# Altium footprint library R-Resistor.PCBLIB: 10 footprints
Each footprint in its own frame and in the unit in brackets; x right, y up, seen from the top. Pads: shape width x height; smd on the part's side, far side on the other; paste and mask are expansions set on the pad; w line width, h text height; cw(c..) or ccw(c..) is an arc to the next point about the centre after c.
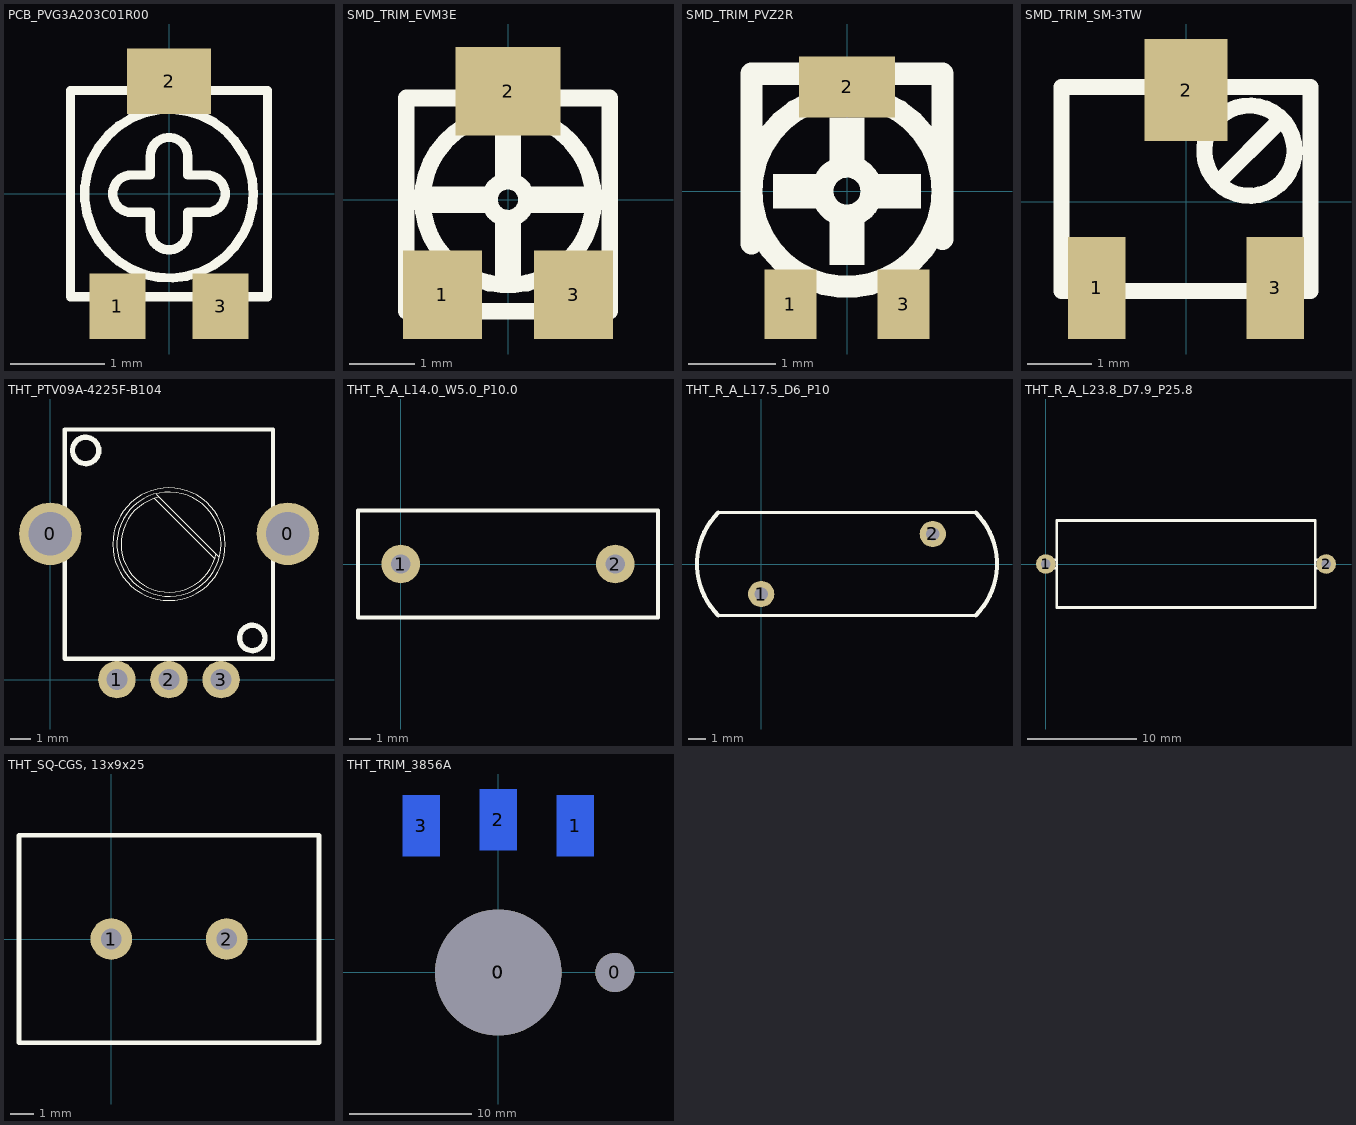
[diagram p0: the footprints below, top view; thin cyan lines are the x and y axes]

## PCB_PVG3A203C01R00 [mm] "PVG3A203C01R00"
height 0.8
pads (3):
  rect 0.6x0.7 smd: 1(-0.55,-1.2) 3(0.55,-1.2)
  rect 0.9x0.7 smd: 2(0,1.2)
Top Overlay:
  circle w0.1: c0,0 r0.9
  lines w0.1: -1.05,-1.1 1.05,-1.1 1.05,1.1 -1.05,1.1 -1.05,-1.1 ; -0.4,-0.2 cw(c-0.4,0) -0.4,0.2 -0.2,0.2 -0.2,0.4 cw(c0,0.4) 0.2,0.4 0.2,0.2 0.4,0.2 cw(c0.4,0) 0.4,-0.2 0.2,-0.2 0.2,-0.4 cw(c0,-0.4) -0.2,-0.4 -0.2,-0.2 -0.4,-0.2

## SMD_TRIM_EVM3E [mm]
pads (3):
  rect 1.2x1.35 smd: 1(-1,-1.45) 3(1,-1.45)
  rect 1.6x1.35 smd: 2(0,1.65)
Top Overlay:
  circle w0.254: c0,0 r1.304
  circle w0.254: c0,0 r0.283
  region: 0.2,-0.2 -0.2,-0.2 -0.2,-1.2 0.2,-1.2
  region: 0.2,0.2 0.2,-0.2 1.304,-0.2 1.304,0.2
  rectangle: -0.2,0.2 0.2,1.2
  region: -0.2,-0.2 -0.2,0.2 -1.2,0.2 -1.2,-0.2
  lines w0.254: -1.55,-1.7 -1.55,1.55 1.55,1.55 1.55,-1.7 -1.55,-1.7

## SMD_TRIM_PVZ2R [mm]
pads (3):
  rect 0.6x0.8 smd: 1(-0.65,-1.3) 3(0.65,-1.3)
  rect 1.1x0.7 smd: 2(0,1.2)
Top Overlay:
  circle w0.254: c0,0 r0.283
  circle w0.254: c0,0 r1.1
  region: 0.2,-0.2 -0.2,-0.2 -0.2,-0.85 0.2,-0.85
  region: -0.2,-0.2 -0.2,0.2 -0.85,0.2 -0.85,-0.2
  rectangle: -0.2,0.2 0.2,0.85
  region: 0.2,0.2 0.2,-0.2 0.85,-0.2 0.85,0.2
  lines w0.254: -1.1,-0.6 -1.1,1.35 1.1,1.35 1.1,-0.55

## SMD_TRIM_SM-3TW [mm]
pads (3):
  rect 0.9x1.6 smd: 1(-1.4,-1.35) 3(1.4,-1.35)
  rect 1.3x1.6 smd: 2(0,1.75)
Top Overlay:
  circle w0.254: c0.993,0.8 r0.707
  lines w0.254: 0.5,0.3 1.45,1.25 ; -1.95,-1.4 -1.95,1.8 1.95,1.8 1.95,-1.4 -1.95,-1.4

## THT_PTV09A-4225F-B104 [mm]
pads (5):
  round 3 hole 2.1: 0(0,7) 0(11.4,7)
  round 1.8 hole 1: 1(3.2,0) 2(5.7,0) 3(8.2,0)
Top Overlay:
  circle w0.254: c9.7,2 r0.608
  circle w0.254: c1.7,11 r0.632
  circle w0.01: c5.7,6.5 r2.502
  circle w0.01: c5.7,6.5 r2.702
  lines w0.01: 5,8.7 7.9,5.8 ; 5.1,8.9 8.1,5.9 ; 5.19,8.745 ccw(c5.7,6.5) 7.957,6.048
  lines w0.2: 0.7,1 0.7,12 10.7,12 10.7,1 0.7,1

## THT_R_A_L14.0_W5.0_P10.0 [mm]
height 19
pads (2):
  round 1.8 hole 0.9: 1(0,0) 2(10,0)
Top Overlay:
  lines w0.2: -2,-2.5 -2,2.5 12,2.5 12,-2.5 -2,-2.5

## THT_R_A_L17.5_D6_P10 [mil]
pads (2):
  round 60 hole 30: 1(0,-68.9) 2(393.7,68.9)
Top Overlay:
  lines w7.87: -98.43,-118.11 492.13,-118.11 ; -98.43,118.11 492.13,118.11
  lines w10: -98.43,-118.11 cw(c19.68,0) -98.43,118.11 ; 492.13,-118.11 ccw(c374.02,0) 492.13,118.11

## THT_R_A_L23.8_D7.9_P25.8 [mm]
pads (2):
  round 1.8 hole 0.9: 1(0,0) 2(25.8,0)
Top Overlay:
  lines w0.254: 1,-0.4 0,-0.4 0,0.4 1,0.4 ; 24.8,-0.4 25.8,-0.4 25.8,0.4 24.8,0.4 ; 1,-4 1,4 24.8,4 24.8,-4 1,-4

## THT_SQ-CGS, 13x9x25 [mm]
pads (2):
  round 1.8 hole 0.9: 1(0,0) 2(5,0)
Top Overlay:
  lines w0.2: -4,-4.5 9,-4.5 9,4.5 -4,4.5 -4,-4.5

## THT_TRIM_3856A [mm] "THT_TRIM_3856A"
pads (7):
  round 15 on Top Solder: 0(0,0)
  round 15 on Bottom Solder: 0(0,0)
  round 10.31 hole 10.31 unplated: 0(0,0)
  round 3.18 hole 3.18 unplated: 0(9.53,0)
  rect 3x5 smd far side: 1(6.3,12) 2(0,12.5) 3(-6.3,12)
Bottom Overlay:
  circle w0.254: c0,0 r9.525